# Altium schematic symbol library SCH - POWER - LINEAR VREG - TI TPS70751-EP_PWP_20.SchLib: 1 symbol
Pins are listed as number, name and electrical type; pins without a type are passive.

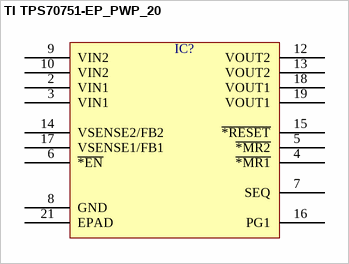
[diagram p0: symbol TI TPS70751-EP_PWP_20]

## TI TPS70751-EP_PWP_20
designator IC?  (value not drawn)
pins: 2 VIN1, 3 VIN1, 4 ~{*MR1}, 5 ~{*MR2}, 6 ~{*EN}, 7 SEQ, 8 GND, 9 VIN2, 10 VIN2, 12 VOUT2, 13 VOUT2, 14 VSENSE2/FB2, 15 ~{*RESET}, 16 PG1, 17 VSENSE1/FB1, 18 VOUT1, 19 VOUT1, 21 EPAD